# EAGLE library part L298 (library we-chip)
ST L298 Dual Full Bridge Driver (up to 46V and 4A)
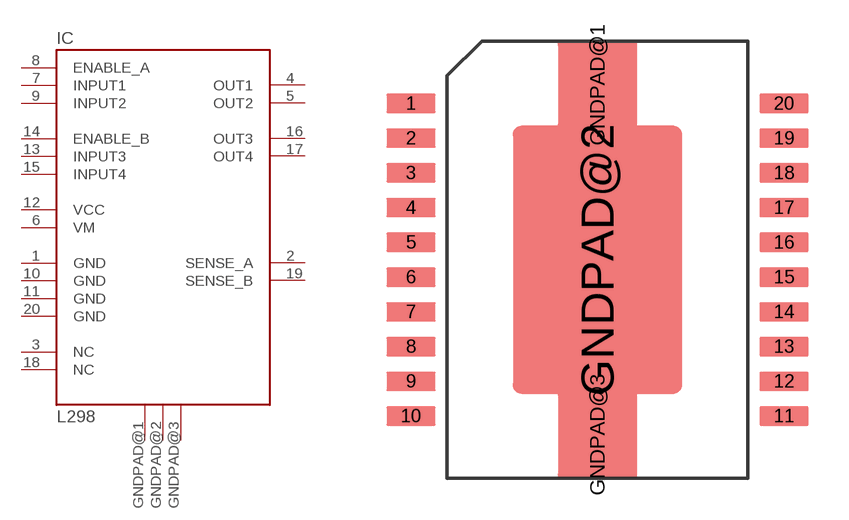
[diagram p22: symbol with the pads of POWERSO20; footprint POWERSO20]

Designator prefix IC

## L298  [POWERSO20]
1  GND  pwr
2  SENSE_A  out
3  NC  nc
4  OUT1  out
5  OUT2  out
6  VM  pwr
7  INPUT1  in
8  ENABLE_A  in
9  INPUT2  in
10  GND  pwr
11  GND  pwr
12  VCC  pwr
13  INPUT3  in
14  ENABLE_B  in
15  INPUT4  in
16  OUT3  out
17  OUT4  out
18  NC  nc
19  SENSE_B  out
20  GND  pwr
GNDPAD@1  GNDPAD  pwr
GNDPAD@2  GNDPAD  pwr
GNDPAD@3  GNDPAD  pwr

## Footprint POWERSO20 (pad centres in mm)
smd 1.8 x 0.7: 1 -6.82,5.715; 2 -6.82,4.445; 3 -6.82,3.175; 4 -6.82,1.905; 5 -6.82,0.635; 6 -6.82,-0.635; 7 -6.82,-1.905; 8 -6.82,-3.175; 9 -6.82,-4.445; 10 -6.82,-5.715; 11 6.82,-5.715; 12 6.82,-4.445; 13 6.82,-3.175; 14 6.82,-1.905; 15 6.82,-0.635; 16 6.82,0.635; 17 6.82,1.905; 18 6.82,3.175; 19 6.82,4.445; 20 6.82,5.715
smd 2.9 x 3.25: GNDPAD@1 0,6.4; GNDPAD@3 0,-6.4
smd 6.2 x 9.8: GNDPAD@2 0,0